# EAGLE library part TECONN-AMPSEAL-23POS-HEADER-RA (library efi-shield)
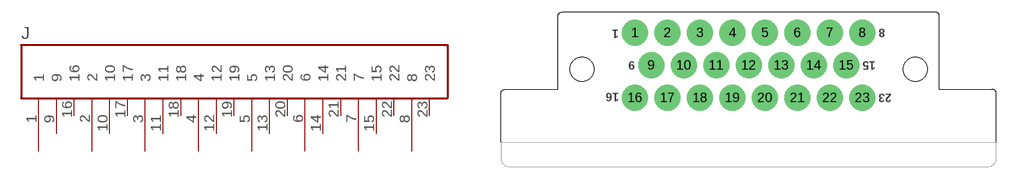
[diagram p2: symbol with the pads of AMPSEAL-HEADER-23PIN-RA; footprint AMPSEAL-HEADER-23PIN-RA]

Designator prefix J

## TECONN-AMPSEAL-23POS-HEADER-RA  [AMPSEAL-HEADER-23PIN-RA]
1  1
2  2
3  3
4  4
5  5
6  6
7  7
8  8
9  9
10  10
11  11
12  12
13  13
14  14
15  15
16  16
17  17
18  18
19  19
20  20
21  21
22  22
23  23

## Footprint AMPSEAL-HEADER-23PIN-RA (pad centres in mm)
drill 1.9 pad 3.2: 1 0,0; 2 4,0; 3 8,0; 4 12,0; 5 16,0; 6 20,0; 7 24,0; 8 28,0; 9 2,-4; 10 6,-4; 11 10,-4; 12 14,-4; 13 18,-4; 14 22,-4; 15 26,-4; 16 0,-8; 17 4,-8; 18 8,-8; 19 12,-8; 20 16,-8; 21 20,-8; 22 24,-8; 23 28,-8
hole 2.95 at -6.5,-4.5
hole 2.95 at 34.5,-4.5